# Altium schematic symbol library Schlib1.SchLib: 39 symbols (part 2 of 2)
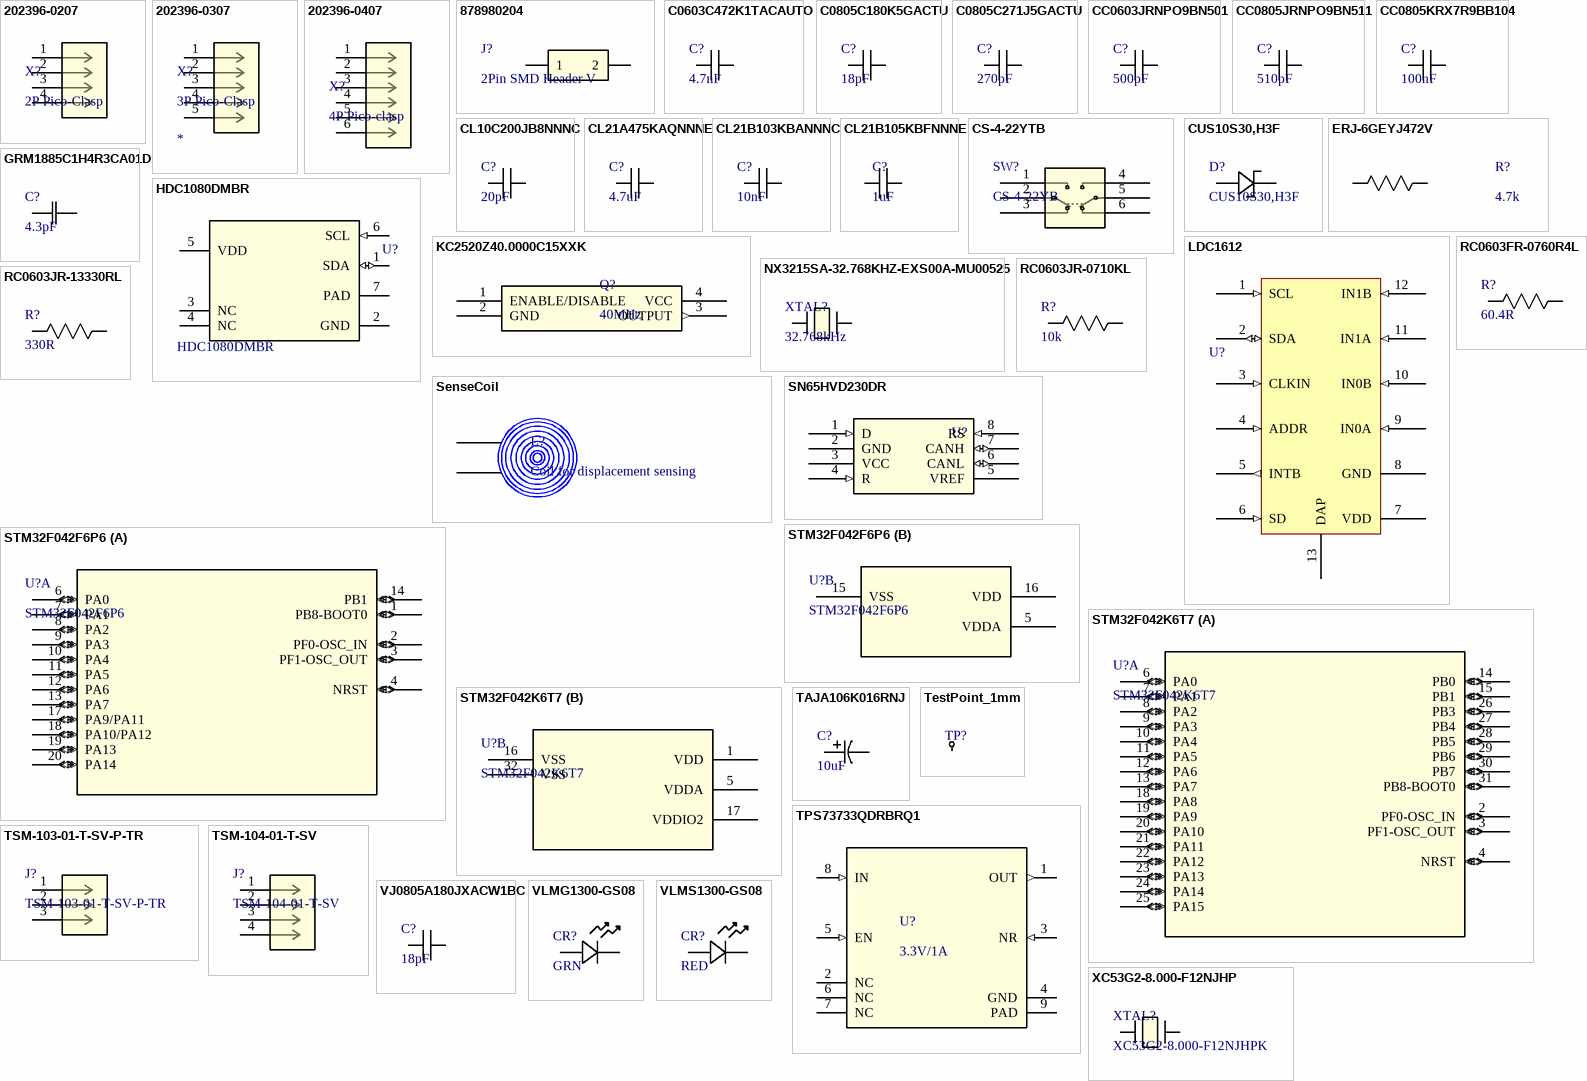
[diagram p1: symbols 202396-0207 to XC53G2-8.000-F12NJHP]

## TAJA106K016RNJ
designator C?, comment 10uF
Cap Tant Solid 10uF 16V A CASE 10%( 3.2 X 1.6 X 1.6mm) Inward L SMD 3216-18 3 Ohm 125C T/R; Mfr_Name: KYOCERA AVX; Manufacturer_Part_Number: TAJA106K016RNJ; Type: DEV; Dielectric Material: Tantalum; Value: 10uF 16V 10% Tantalum; ESR (Equivalent Series Resistance): 3R; Leakage Current: 1.6uA; Dissipation Factor: 8%; Polarity: Polar; Frequency: 300MHz; Life (Hours): 2000Hour; Ripple Current: 158mA; Copyright: Copyright (C) 2023 Ultra Librarian. All rights reserved.; RefDes: RefDes; Supplier: Digi-Key; Supplier Part Number: 478-1655-6-ND; Manufacturer: Kyocera AVX; Manufacturer Part Number: TAJA106K016RNJ; RoHS: Yes; Category: Tantalum Capacitors; Stock: 8878; Pricing: 1=0.35, 10=0.234, 50=0.1726, 100=0.1405, 500=0.1109, 1000=0.09365 (USD); Mounting Technology: Surface Mount,PCB; Case/Package: 1206; Pins: 2; Case Code (Metric): 3216; Case Code (Imperial): 1206; Min Operating Temperature: -55°C; Max Operating Temperature: 125°C; Tolerance: 10%; Packaging: Tape and Reel; Voltage Rating: 16V; Voltage Rating (DC): 16V; Features: General Purpose; Series: TAJ; Package Quantity: 1; Termination: SMD/SMT; Voltage: 16V; Construction: Flat; Voltage Rating (AC): 16V; Length: 3.2mm; Width: 1.6mm; Height: 1.6mm; Depth: 1.6mm; Height - Seated (Max): 0.071inch; Lead Pitch: 1.1mm; Size: 1.6mm; Radiation Hardening: No; Lead Free: Lead Free; RoHS Compliant: Yes; Reach SVHC Compliant: No; ComponentLink1URL: https://datasheet.ciiva.com/27051/1234933-27051768.pdf?src-supplier=Jameco; ComponentLink1Description: https://datasheet.ciiva.com/27051/1234933-27051768.pdf?src-supplier=Jameco; ComponentLink2URL: https://datasheet.ciiva.com/26341/559411-da-01-en-tacc-a-3-2-mm-x-1-6-mm-x-1-6-mm-10-uf-26341755.pdf?src-supplier=Conrad; ComponentLink2Description: https://datasheet.ciiva.com/26341/559411-da-01-en-tacc-a-3-2-mm-x-1-6-mm-x-1-6-mm-10-uf-26341755.pdf?src-supplier=Conrad; ComponentLink3URL: https://datasheet.ciiva.com/18710/taj-eng-18710622.pdf?src-supplier=Distrelec; ComponentLink3Description: https://datasheet.ciiva.com/18710/taj-eng-18710622.pdf?src-supplier=Distrelec; ComponentLink4URL: https://datasheet.ciiva.com/7730/1703059-7730712.pdf?src-supplier=Element14; ComponentLink4Description: https://datasheet.ciiva.com/7730/1703059-7730712.pdf?src-supplier=Element14; ComponentLink5URL: https://datasheet.ciiva.com/7730/1703059-7730713.pdf?src-supplier=Element14; ComponentLink5Description: https://datasheet.ciiva.com/7730/1703059-7730713.pdf?src-supplier=Element14; ComponentLink6URL: https://datasheet.ciiva.com/7730/taj-7730975.pdf?src-supplier=Element14; ComponentLink6Description: https://datasheet.ciiva.com/7730/taj-7730975.pdf?src-supplier=Element14; ComponentLink7URL: https://datasheet.ciiva.com/7730/1680476-7730714.pdf?src-supplier=Element14; ComponentLink7Description: https://datasheet.ciiva.com/7730/1680476-7730714.pdf?src-supplier=Element14; ComponentLink8URL: https://datasheet.ciiva.com/263/taj-263392.pdf?src-supplier=Digi-Key; ComponentLink8Description: https://datasheet.ciiva.com/263/taj-263392.pdf?src-supplier=Digi-Key; ComponentLink9URL: https://datasheet.ciiva.com/263/taj-263391.pdf?src-supplier=Digi-Key; ComponentLink9Description: https://datasheet.ciiva.com/263/taj-263391.pdf?src-supplier=Digi-Key; ComponentLink10URL: https://datasheet.ciiva.com/263/taj-263393.pdf?src-supplier=Digi-Key; ComponentLink10Description: https://datasheet.ciiva.com/263/taj-263393.pdf?src-supplier=Digi-Key; ComponentLink11URL: https://datasheet.ciiva.com/12882/taj-27497-12882509.pdf?src-supplier=Mouser; ComponentLink11Description: https://datasheet.ciiva.com/12882/taj-27497-12882509.pdf?src-supplier=Mouser; ComponentLink12URL: https://datasheet.ciiva.com/3004/taj-3004388.pdf?src-supplier=Avnet; ComponentLink12Description: https://datasheet.ciiva.com/3004/taj-3004388.pdf?src-supplier=Avnet; ComponentLink13URL: https://datasheet.ciiva.com/16379/taj-16379015.pdf?src-supplier=Future+Electronics; ComponentLink13Description: https://datasheet.ciiva.com/16379/taj-16379015.pdf?src-supplier=Future+Electronics; ComponentLink14URL: https://datasheet.ciiva.com/3004/taj-3004387.pdf?src-supplier=Avnet; ComponentLink14Description: https://datasheet.ciiva.com/3004/taj-3004387.pdf?src-supplier=Avnet; LCSC Part#: C7171
footprint CAP1206_TAJA
pins: 1, 2

## TestPoint_1mm
designator TP?, comment 1mm Test Point  (value not drawn)
footprint TP_1MM (1mm test point)
pins: 1 0

## TPS73733QDRBRQ1
designator U?, comment 3.3V/1A
Automotive 1-A, ultra-low-dropout voltage regulator with reverse current protection & enable; Manufacturer: Texas Instruments; Manufacturer Part Number: TPS73733QDRBRQ1; Max Power Dissipation: 2.5W; Number of Outputs: 1; Output Voltage: 3.3V; Dropout Voltage: 130mV; Output Current: 1A; Max Supply Voltage: 5.5V; Min Input Voltage: 2.2V; Min Current Limit: 1.05A; Polarity: Positive; Accuracy: 3%; Output Voltage Accuracy: 1%; Quiescent Current: 300uA; Output Type: Fixed; Value: TPS73733QDRBRQ1; Supplier: Digi-Key; Supplier Part Number: 296-24157-1-ND; RoHS: Yes; Category: Voltage Regulators - Linear; Stock: 24609; Pricing: 1=2.06, 10=1.847, 25=1.7424, 100=1.4844, 250=1.3938, 500=1.21958, 1000=1.0105 (USD); Case/Package: SON; Pins: 8; Min Operating Temperature: -40°C; Max Operating Temperature: 125°C; Packaging: Tape and Reel; Package Quantity: 1; Max Output current: 1A; Number of Regulators: 1; Nominal Output Voltage: 3.3V; Power Dissipation: 2.5W; Min Output Voltage: 3.3V; Max Output Voltage: 3.3V; Series: Automotive, AEC-Q100; Length: 3mm; Width: 3mm; Height: 1mm; Thickness: 880um; Radiation Hardening: No; Reach SVHC Compliant: No; Lead Free: Lead Free; RoHS Compliant: Yes; ComponentLink1URL: https://datasheet.ciiva.com/2045/tps73719-q1-2045686.pdf?src-supplier=Digi-Key; ComponentLink1Description: https://datasheet.ciiva.com/2045/tps73719-q1-2045686.pdf?src-supplier=Digi-Key; ComponentLink2URL: https://datasheet.ciiva.com/3224/tps73733-q1-3224372.pdf?src-supplier=Avnet; ComponentLink2Description: https://datasheet.ciiva.com/3224/tps73733-q1-3224372.pdf?src-supplier=Avnet; ComponentLink3URL: https://datasheet.ciiva.com/4888/sbvs123-125968-4888332.pdf?src-supplier=Mouser; ComponentLink3Description: https://datasheet.ciiva.com/4888/sbvs123-125968-4888332.pdf?src-supplier=Mouser; ComponentLink4URL: https://datasheet.ciiva.com/14277/sbvs123-14277182.pdf?src-supplier=Avnet; ComponentLink4Description: https://datasheet.ciiva.com/14277/sbvs123-14277182.pdf?src-supplier=Avnet; LCSC Part#: C523768
footprint VSON_DRB8
pins: 1 OUT (out), 2 NC, 3 NR (in), 4 GND (power), 5 EN (in), 6 NC, 7 NC, 8 IN (in), 9 PAD (power)

## TSM-103-01-T-SV-P-TR
designator J?
Conn Unshrouded Header HDR 3 POS 2.54mm Solder ST Top Entry SMD T/R; Mfr_Name: Samtec Inc; Manufacturer: Samtec; Number of Contacts: 3; Max Current Rating: 7A; Max Voltage Rating (AC): 475V; Gender: Male; Copyright: Copyright (C) 2023 Ultra Librarian. All rights reserved.; Manufacturer_Part_Number: TSM-103-01-T-SV-P-TR; RefDes: RefDes; Type: DEV; Supplier: Digi-Key; Supplier Part Number: 612-TSM-103-01-T-SV-P-TRCT-ND; Manufacturer Part Number: TSM-103-01-T-SV-P-TR; RoHS: Yes; Category: Headers and Wire Housings; Stock: 17882; Pricing: 1=1.03, 10=0.866, 100=0.7777 (USD); Mounting Technology: Surface Mount; Contact Plating: Tin; Contact Material: Bronze; Color: Black; Housing Color: Black; Housing Material: Polymer; Min Operating Temperature: -55°C; Max Operating Temperature: 105°C; Number of Rows: 1; Termination: Solder; Packaging: Tape and Reel; Number of Positions: 3; Orientation: Straight; Series: TSM; Contact Type: Male Pin; Length: 7.62mm; Pitch: 2.54mm; Contact Mating Length: 0.23inch; Depth: 2.54mm; Radiation Hardening: No; RoHS Compliant: Yes; Reach SVHC Compliant: No; Lead Free: Lead Free; ComponentLink1URL: https://datasheet.ciiva.com/739/tsm-1xx-xx-xxx-sv-xx-xxx-xx-mkt-739599.pdf?src-supplier=Digi-Key; ComponentLink1Description: https://datasheet.ciiva.com/739/tsm-1xx-xx-xxx-sv-xx-xxx-xx-mkt-739599.pdf?src-supplier=Digi-Key; Value: TSM-103-01-T-SV-P-TR; LCSC Part#: *
footprint CONN_TSM-103-01-x-SV_SAI
pins: 1, 2, 3

## TSM-104-01-T-SV
designator J?
Conn Unshrouded Header HDR 4 POS 2.54mm Solder ST Top Entry SMD Tube; Mfr_Name: Samtec Inc; Manufacturer: Samtec; Number of Contacts: 4; Gender: Male; Max Current Rating: 7A; Max Voltage Rating (AC): 475V; Copyright: Copyright (C) 2023 Ultra Librarian. All rights reserved.; Manufacturer_Part_Number: TSM-104-01-T-SV; RefDes: RefDes; Type: DEV; Supplier: Digi-Key; Supplier Part Number: SAM8983-ND; Manufacturer Part Number: TSM-104-01-T-SV; RoHS: Yes; Category: Headers and Wire Housings; Stock: 1177; Pricing: 1=0.65, 10=0.564, 100=0.4646, 500=0.404, 1000=0.3333, 5000=0.2929, 10000=0.2727 (USD); Mounting Technology: Surface Mount; Contact Plating: Tin; Contact Material: Bronze; Contact Shape: Square; Contact Finish - Mating: TIN; Insulation Material: Polymer; Insulation Color: Black; Housing Color: Black; Housing Material: Polymer; Color: Black; Min Operating Temperature: -55°C; Max Operating Temperature: 105°C; Number of Rows: 1; Packaging: Rail/Tube; Termination: Solder; Number of Positions: 4; Series: TSM; Contact Type: Male Pin; Connector Type: Header; Fastening Type: Pull; Orientation: Straight; Package Quantity: 1; Length: 10.16mm; Pitch: 2.54mm; Depth: 2.54mm; Contact Mating Length: 0.23inch; Radiation Hardening: No; Lead Free: Lead Free; RoHS Compliant: Yes; Flammability Rating: UL94 V-0; Reach SVHC Compliant: No; ComponentLink1URL: https://datasheet.ciiva.com/739/tsm-1xx-xx-xxx-sv-xx-xxx-xx-mkt-739625.pdf?src-supplier=Digi-Key; ComponentLink1Description: https://datasheet.ciiva.com/739/tsm-1xx-xx-xxx-sv-xx-xxx-xx-mkt-739625.pdf?src-supplier=Digi-Key; LCSC Part#: C3335977; Value: TSM-104-01-T-SV
footprint CONN_TSM-104-01-T-SV_SAI
pins: 1, 2, 3, 4

## VJ0805A180JXACW1BC
designator C?, comment 18pF
0805 18 pF 50 V ±5 % Tolerance C0G/NP0 SMT Multilayer Ceramic Chip Capacitor; Manufacturer: Vishay; Manufacturer Part Number: VJ0805A180JXACW1BC; Dielectric Material: Tantalum; Tolerance: 5%; Voltage Rating: 50V; Dielectric: C0G; Temperature Coefficient: 0ppm/°C; Supplier: Digi-Key; Supplier Part Number: 720-1628-1-ND; RoHS: Yes; Category: Ceramic Capacitors; Stock: 4074; Pricing: 1=0.2, 10=0.132, 50=0.079, 100=0.0622, 500=0.0459, 1000=0.038 (USD); Mounting Technology: Surface Mount; Case/Package: 0805; Pins: 2; Case Code (Imperial): 0805; Case Code (Metric): 2012; Min Operating Temperature: -55°C; Max Operating Temperature: 125°C; Value: 18pF 50V; Voltage Rating (DC): 50V; Packaging: Tape and Reel; Package Quantity: 4000; Termination: SMD/SMT; Series: VJ; Construction: Flat; Length: 2mm; Width: 1.25mm; Height: 1.45mm; Thickness: 0.03inch; Depth: 1.25mm; Radiation Hardening: No; Lead Free: Lead Free; RoHS Compliant: Yes; ComponentLink1URL: https://datasheet.ciiva.com/16511/vjw1bcbascomseries-16511277.pdf?src-supplier=Future+Electronics; ComponentLink1Description: https://datasheet.ciiva.com/16511/vjw1bcbascomseries-16511277.pdf?src-supplier=Future+Electronics; ComponentLink2URL: https://datasheet.ciiva.com/176/vjw1bcbascomseries-176732.pdf?src-supplier=Digi-Key; ComponentLink2Description: https://datasheet.ciiva.com/176/vjw1bcbascomseries-176732.pdf?src-supplier=Digi-Key; LCSC Part#: C2174299
footprint CAP0805
pins: 1, 2

## VLMG1300-GS08
designator CR?, comment GRN
LED Uni-Color Yellow Green 574nm 2-Pin Chip 0603(1608Metric) T/R; Mfr_Name: Vishay; Manufacturer_Part_Number: VLMG1300-GS08; Manufacturer: Vishay Semiconductors; Type: DEV; Color: Green,Yellow; Lens Style: Rectangular,Clear; Forward Voltage: 2V; Viewing Angle: 130°; Luminous Intensity: 35mcd; Forward Current: 20mA; Wavelength: 571nm; Power Rating: 75mW; Number of Elements: 1; Reverse Voltage: 5V; Value: LED Green; Copyright: Copyright (C) 2023 Ultra Librarian. All rights reserved.; RefDes: RefDes; Supplier: Digi-Key; Supplier Part Number: VLMG1300-GS08CT-ND; Manufacturer Part Number: VLMG1300-GS08; RoHS: Yes; Category: LEDs; Stock: 55201; Pricing: 1=0.3, 10=0.237, 100=0.1065, 500=0.09616, 1000=0.07898 (USD); Mounting Technology: Surface Mount; Case/Package: 0603; Pins: 2; Case Code (Metric): 1608; Case Code (Imperial): 0603; Min Operating Temperature: -35°C; Max Operating Temperature: 85°C; Packaging: Tape and Reel; Illumination Color: Green,Yellow; Package Quantity: 1; Dominant Wavelength: 571nm; Test Current: 20mA; Power Dissipation: 75mW; Number of LEDs: 1; Series: CHipLED; Length: 1.6mm; Width: 0.8mm; Height: 0.8mm; Depth: 0.8mm; Radiation Hardening: No; Lead Free: Lead Free; RoHS Compliant: Yes; Reach SVHC Compliant: Unknown; ComponentLink1URL: https://datasheet.ciiva.com/26322/vlmo1300-26322139.pdf?src-supplier=Element14; ComponentLink1Description: https://datasheet.ciiva.com/26322/vlmo1300-26322139.pdf?src-supplier=Element14; ComponentLink2URL: https://datasheet.ciiva.com/26322/vlmo1300-26322140.pdf?src-supplier=Element14; ComponentLink2Description: https://datasheet.ciiva.com/26322/vlmo1300-26322140.pdf?src-supplier=Element14; ComponentLink3URL: https://datasheet.ciiva.com/8028/vlmo1300-8028023.pdf?src-supplier=Element14; ComponentLink3Description: https://datasheet.ciiva.com/8028/vlmo1300-8028023.pdf?src-supplier=Element14; ComponentLink4URL: https://datasheet.ciiva.com/9333/vlmo1300-9333390.pdf?src-supplier=Avnet; ComponentLink4Description: https://datasheet.ciiva.com/9333/vlmo1300-9333390.pdf?src-supplier=Avnet; LCSC Part#: C4749244
footprint LED_VISHAY_VLMX1300_VIS
pins: 1, 2

## VLMS1300-GS08
designator CR?, comment RED
LED RED 0603 SMD; Mfr_Name: Vishay; Manufacturer_Part_Number: VLMS1300-GS08; Manufacturer: Vishay Semiconductors; Type: DEV; Viewing Angle: 130°; Lens Style: Rectangular,Clear; Number of LEDs: 1; Luminous Intensity: 54mcd; Forward Voltage: 2V; Wavelength: 631nm; Forward Current: 20mA; Power Rating: 75mW; Value: LED Red; Copyright: Copyright (C) 2023 Ultra Librarian. All rights reserved.; RefDes: RefDes; Supplier: Digi-Key; Supplier Part Number: VLMS1300-GS08CT-ND; Manufacturer Part Number: VLMS1300-GS08; RoHS: Yes; Category: LEDs; Stock: 28800; Pricing: 1=0.28, 10=0.223, 100=0.1002, 500=0.0905, 1000=0.07434 (USD); Mounting Technology: Surface Mount; Case/Package: 0603; Color: Red; Case Code (Metric): 1608; Case Code (Imperial): 0603; Min Operating Temperature: -35°C; Max Operating Temperature: 85°C; Package Quantity: 1; Packaging: Tape and Reel; Illumination Color: Red; Dominant Wavelength: 631nm; Test Current: 20mA; Series: CHipLED; Length: 1.6mm; Width: 0.8mm; Height: 0.8mm; Radiation Hardening: No; Lead Free: Lead Free; RoHS Compliant: Yes; Reach SVHC Compliant: Unknown; ComponentLink1URL: https://datasheet.ciiva.com/26322/vlmo1300-26322153.pdf?src-supplier=Element14; ComponentLink1Description: https://datasheet.ciiva.com/26322/vlmo1300-26322153.pdf?src-supplier=Element14; ComponentLink2URL: https://datasheet.ciiva.com/8028/vlmo1300-8028047.pdf?src-supplier=Element14; ComponentLink2Description: https://datasheet.ciiva.com/8028/vlmo1300-8028047.pdf?src-supplier=Element14; ComponentLink3URL: https://datasheet.ciiva.com/9333/vlmo1300-9333743.pdf?src-supplier=Avnet; ComponentLink3Description: https://datasheet.ciiva.com/9333/vlmo1300-9333743.pdf?src-supplier=Avnet; ComponentLink4URL: https://datasheet.ciiva.com/16510/vlmo1300-16510985.pdf?src-supplier=Future+Electronics; ComponentLink4Description: https://datasheet.ciiva.com/16510/vlmo1300-16510985.pdf?src-supplier=Future+Electronics; ComponentLink5URL: https://datasheet.ciiva.com/2114/vlmo1300-2114930.pdf?src-supplier=Digi-Key; ComponentLink5Description: https://datasheet.ciiva.com/2114/vlmo1300-2114930.pdf?src-supplier=Digi-Key; ComponentLink6URL: https://datasheet.ciiva.com/2114/vlmo1300-2114931.pdf?src-supplier=Digi-Key; ComponentLink6Description: https://datasheet.ciiva.com/2114/vlmo1300-2114931.pdf?src-supplier=Digi-Key; ComponentLink7URL: https://datasheet.ciiva.com/2114/vlmo1300-2114929.pdf?src-supplier=Digi-Key; ComponentLink7Description: https://datasheet.ciiva.com/2114/vlmo1300-2114929.pdf?src-supplier=Digi-Key; LCSC Part#: C83242
footprint LED_VISHAY_VLMX1300_VIS
pins: 1, 2

## XC53G2-8.000-F12NJHP
designator XTAL?, comment XC53G2-8.000-F12NJHPK
CRYSTAL 8MHZ 12PF SMD; Mfr_Name: HCI; Copyright: Copyright (C) 2023 Ultra Librarian. All rights reserved.; Manufacturer_Part_Number: XC53G2-8.000-F12NJHPK; RefDes: RefDes; Type: DEV; Value: XC53G2-8.000-F12NJHPK; LCSC Part#: C2842269
footprint XTAL_NX5032_NDK
pins: 1, 2